# Altium schematic symbol library sensor.SchLib: 5 symbols
Pins are listed as number, name and electrical type; pins without a type are passive.

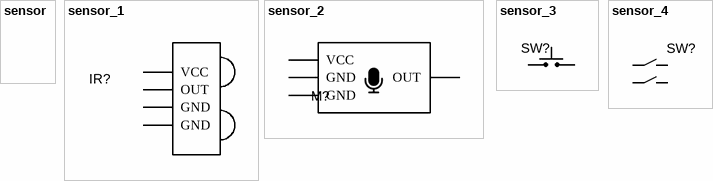
[diagram p0: symbols sensor to sensor_4]

## sensor
designator ?
Template

## sensor_1
designator IR?
IR receiver, 38 kHz, 40m, SMD; Manufacturer 1: Vishay Semiconductor Opto Division; Manufacturer Part Number 1: TSSP77038TR; Supplier 1: Digi-Key; Supplier Part Number 1: TSSP77038TRCT-ND
footprint TSSP77038TR
pins: 1 GND, 2 VCC, 3 OUT, 4 GND

## sensor_2
designator M?
Microphone, MEMS, 100 Hz - 10 kHz, 3.3V,  SMD; Manufacturer 1: Knowles; Manufacturer Part Number 1: SPU0410HR5H-PB; Supplier 1: Digi-Key; Supplier Part Number 1: 423-1138-1-ND
footprint SPU0410HR5H-PB
pins: 1 VCC, 2 GND, 3 GND, 4 OUT

## sensor_3
designator SW?
Tactile switch SMD, tiny; Manufacturer 1: C&K; Manufacturer Part Number 1: KMR621NG LFS; Supplier 1: Digi-Key; Supplier Part Number 1: CKN10684CT-ND; Link: https://www.digikey.no/product-detail/en/c-k/KMR621NG-LFS/CKN10684CT-ND/6035356
footprint KMR621NG LFS
pins: 1, 2

## sensor_4
designator SW?
DIP switch, 2 switches, SMD; Manufacturer 1: CTS Electrocomponents; Manufacturer Part Number 1: 219-2MSTR; Supplier 1: Digi-Key; Supplier Part Number 1: CT3114TR-ND; Link: https://www.digikey.no/en/products/detail/cts-electrocomponents/219-2MSTR/5223989
footprint 219-2MSTR
pins: 1, 2, 3, 4